# EAGLE library part THAT1200 (library that-corp)
InGenius High-CMRR Balanced Input Line Receiver
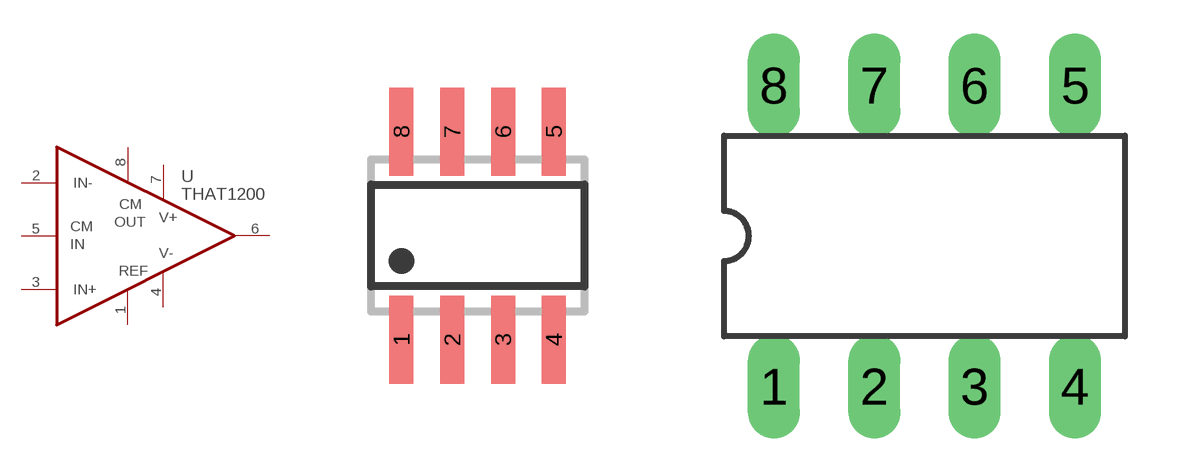
[diagram p11: symbol with the pads of SO08; footprints SO08, DIL08]

Designator prefix U

## THAT1200S  [SO08]
1  REF  pas
2  IN-  in
3  IN+  in
4  V-  pwr
5  CM_IN  in
6  OUT  out
7  V+  pwr
8  CM_OUT  out

## THAT1200P  [DIL08]
Pads as for SO08

## Footprint SO08 (pad centres in mm)
SMALL OUTLINE INTEGRATED CIRCUIT body 3.9 mm/JEDEC MS-012AA
smd 0.6 x 2.2: 1 -1.905,-2.6; 2 -0.635,-2.6; 3 0.635,-2.6; 4 1.905,-2.6; 5 1.905,2.6; 6 0.635,2.6; 7 -0.635,2.6; 8 -1.905,2.6

## Footprint DIL08 (pad centres in mm)
Dual In Line package type P
drill 0.813 long: 1 -3.81,-3.81; 2 -1.27,-3.81; 3 1.27,-3.81; 4 3.81,-3.81; 5 3.81,3.81; 6 1.27,3.81; 7 -1.27,3.81; 8 -3.81,3.81